# Altium footprint library SI5330G-B00219-GM.PcbLib: 1 footprints
Each footprint in its own frame and in the unit in brackets; x right, y up, seen from the top. Pads: shape width x height; smd on the part's side, far side on the other; paste and mask are expansions set on the pad; w line width, h text height; cw(c..) or ccw(c..) is an arc to the next point about the centre after c.
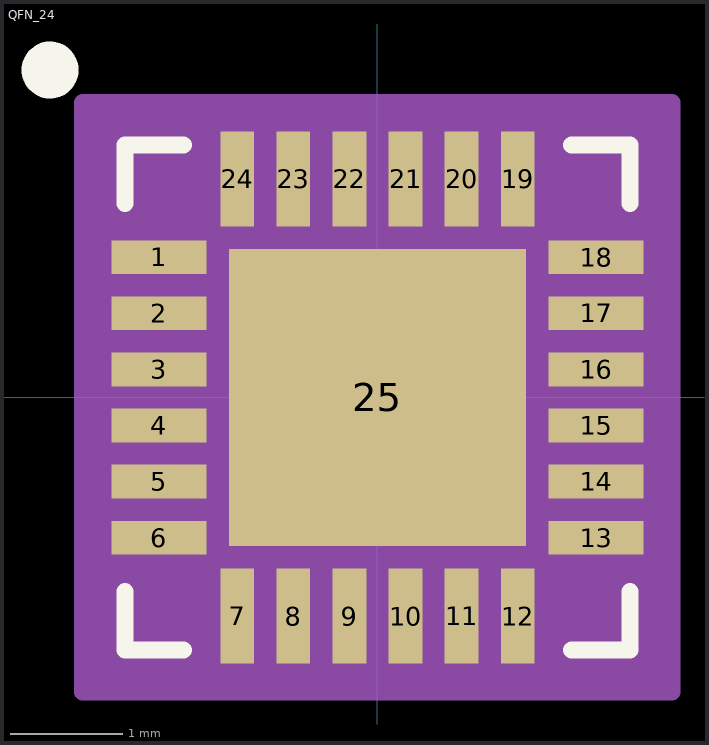
[diagram p0: the footprint, top view; thin cyan lines are the x and y axes]

## QFN_24 [mm]
pads (25):
  rect 0.85x0.3 smd paste-0.15: 1(-1.95,1.25) 2(-1.95,0.75) 3(-1.95,0.25) 4(-1.95,-0.25) 5(-1.95,-0.75) 6(-1.95,-1.25) 13(1.95,-1.25) 14(1.95,-0.75) 15(1.95,-0.25) 16(1.95,0.25) 17(1.95,0.75) 18(1.95,1.25)
  rect 0.3x0.85 smd paste-0.15: 7(-1.25,-1.95) 8(-0.75,-1.95) 9(-0.25,-1.95) 10(0.25,-1.95) 11(0.75,-1.95) 12(1.25,-1.95) 19(1.25,1.95) 20(0.75,1.95) 21(0.25,1.95) 22(-0.25,1.95) 23(-0.75,1.95) 24(-1.25,1.95)
  rect 2.65x2.65 smd paste-1.325: 25(0,0)
Top Overlay:
  circle w0.254: c-2.921,2.921 r0.127
  lines w0.152: -2.254,-1.733 -2.254,-2.254 -1.733,-2.254 ; -2.254,1.733 -2.254,2.254 -1.733,2.254 ; 1.733,-2.254 2.254,-2.254 2.254,-1.733 ; 1.733,2.254 2.254,2.254 2.254,1.733
Top Paste:
  region: 0.662,-0.662 -0.662,-0.662 -0.662,0.662 0.662,0.662
  region: -1.1,2.375 -1.4,2.375 -1.4,1.525 -1.1,1.525
  region: -0.6,2.375 -0.9,2.375 -0.9,1.525 -0.6,1.525
  region: -0.1,2.375 -0.4,2.375 -0.4,1.525 -0.1,1.525
  region: 0.4,2.375 0.1,2.375 0.1,1.525 0.4,1.525
  region: 0.9,2.375 0.6,2.375 0.6,1.525 0.9,1.525
  region: 1.4,2.375 1.1,2.375 1.1,1.525 1.4,1.525
  region: 2.375,1.4 1.525,1.4 1.525,1.1 2.375,1.1
  region: 2.375,0.9 1.525,0.9 1.525,0.6 2.375,0.6
  region: 2.375,0.4 1.525,0.4 1.525,0.1 2.375,0.1
  region: 2.375,-0.1 1.525,-0.1 1.525,-0.4 2.375,-0.4
  region: 2.375,-0.6 1.525,-0.6 1.525,-0.9 2.375,-0.9
  region: 2.375,-1.1 1.525,-1.1 1.525,-1.4 2.375,-1.4
  region: 1.4,-1.525 1.1,-1.525 1.1,-2.375 1.4,-2.375
  region: 0.9,-1.525 0.6,-1.525 0.6,-2.375 0.9,-2.375
  region: 0.4,-1.525 0.1,-1.525 0.1,-2.375 0.4,-2.375
  region: -0.1,-1.525 -0.4,-1.525 -0.4,-2.375 -0.1,-2.375
  region: -0.6,-1.525 -0.9,-1.525 -0.9,-2.375 -0.6,-2.375
  region: -1.1,-1.525 -1.4,-1.525 -1.4,-2.375 -1.1,-2.375
  region: -1.525,-1.1 -2.375,-1.1 -2.375,-1.4 -1.525,-1.4
  region: -1.525,-0.6 -2.375,-0.6 -2.375,-0.9 -1.525,-0.9
  region: -1.525,-0.1 -2.375,-0.1 -2.375,-0.4 -1.525,-0.4
  region: -1.525,0.4 -2.375,0.4 -2.375,0.1 -1.525,0.1
  region: -1.525,0.9 -2.375,0.9 -2.375,0.6 -1.525,0.6
  region: -1.525,1.4 -2.375,1.4 -2.375,1.1 -1.525,1.1
Top Solder:
  region: -1.1,2.375 -1.4,2.375 -1.4,1.525 -1.1,1.525
  region: -0.6,2.375 -0.9,2.375 -0.9,1.525 -0.6,1.525
  region: -0.1,2.375 -0.4,2.375 -0.4,1.525 -0.1,1.525
  region: 0.4,2.375 0.1,2.375 0.1,1.525 0.4,1.525
  region: 0.9,2.375 0.6,2.375 0.6,1.525 0.9,1.525
  region: 1.4,2.375 1.1,2.375 1.1,1.525 1.4,1.525
  region: 2.375,1.4 1.525,1.4 1.525,1.1 2.375,1.1
  region: 2.375,0.9 1.525,0.9 1.525,0.6 2.375,0.6
  region: 2.375,0.4 1.525,0.4 1.525,0.1 2.375,0.1
  region: 2.375,-0.1 1.525,-0.1 1.525,-0.4 2.375,-0.4
  region: 2.375,-0.6 1.525,-0.6 1.525,-0.9 2.375,-0.9
  region: 2.375,-1.1 1.525,-1.1 1.525,-1.4 2.375,-1.4
  region: 1.4,-1.525 1.1,-1.525 1.1,-2.375 1.4,-2.375
  region: 0.9,-1.525 0.6,-1.525 0.6,-2.375 0.9,-2.375
  region: 0.4,-1.525 0.1,-1.525 0.1,-2.375 0.4,-2.375
  region: -0.1,-1.525 -0.4,-1.525 -0.4,-2.375 -0.1,-2.375
  region: -0.6,-1.525 -0.9,-1.525 -0.9,-2.375 -0.6,-2.375
  region: -1.1,-1.525 -1.4,-1.525 -1.4,-2.375 -1.1,-2.375
  region: -1.525,-1.1 -2.375,-1.1 -2.375,-1.4 -1.525,-1.4
  region: -1.525,-0.6 -2.375,-0.6 -2.375,-0.9 -1.525,-0.9
  region: -1.525,-0.1 -2.375,-0.1 -2.375,-0.4 -1.525,-0.4
  region: -1.525,0.4 -2.375,0.4 -2.375,0.1 -1.525,0.1
  region: -1.525,0.9 -2.375,0.9 -2.375,0.6 -1.525,0.6
  region: -1.525,1.4 -2.375,1.4 -2.375,1.1 -1.525,1.1
Mechanical 13:
  lines w0.025: -2,0.73 -0.73,2 ; -2,-2 -2,2 2,2 2,-2 -2,-2 ; -2,-1.4 -2,-1.1 -2,-1.4 ; -2,-0.9 -2,-0.6 -2,-0.9 ; -2,-0.4 -2,-0.1 -2,-0.4 ; -2,0.1 -2,0.4 -2,0.1 ; -2,0.6 -2,0.9 -2,0.6 ; -2,1.1 -2,1.4 -2,1.1 ; -1.4,-2 -1.1,-2 -1.4,-2 ; -1.4,2 -1.1,2 -1.4,2 ; -0.9,-2 -0.6,-2 -0.9,-2 ; -0.9,2 -0.6,2 -0.9,2 ; -0.4,-2 -0.1,-2 -0.4,-2 ; -0.4,2 -0.1,2 -0.4,2 ; 0.1,-2 0.4,-2 0.1,-2 ; 0.1,2 0.4,2 0.1,2 ; 0.6,-2 0.9,-2 0.6,-2 ; 0.6,2 0.9,2 0.6,2 ; 1.1,-2 1.4,-2 1.1,-2 ; 1.1,2 1.4,2 1.1,2 ; 2,-1.4 2,-1.1 2,-1.4 ; 2,-0.9 2,-0.6 2,-0.9 ; 2,-0.4 2,-0.1 2,-0.4 ; 2,0.1 2,0.4 2,0.1 ; 2,0.6 2,0.9 2,0.6 ; 2,1.1 2,1.4 2,1.1
Mechanical 15:
  region: 2.629,-2.629 -2.629,-2.629 -2.629,2.629 2.629,2.629
  lines w0.152: -2.629,-2.629 2.629,-2.629 2.629,2.629 -2.629,2.629 -2.629,-2.629
3D body: height 0.85, standoff 0, extent -1.905,-1.905 1.905,1.905
3D body: height 0.25, standoff 0, extent 0,0 0.254,0.254